# Altium footprint library PcbLib1.PcbLib: 6 footprints
Each footprint in its own frame and in the unit in brackets; x right, y up, seen from the top. Pads: shape width x height; smd on the part's side, far side on the other; paste and mask are expansions set on the pad; w line width, h text height; cw(c..) or ccw(c..) is an arc to the next point about the centre after c.
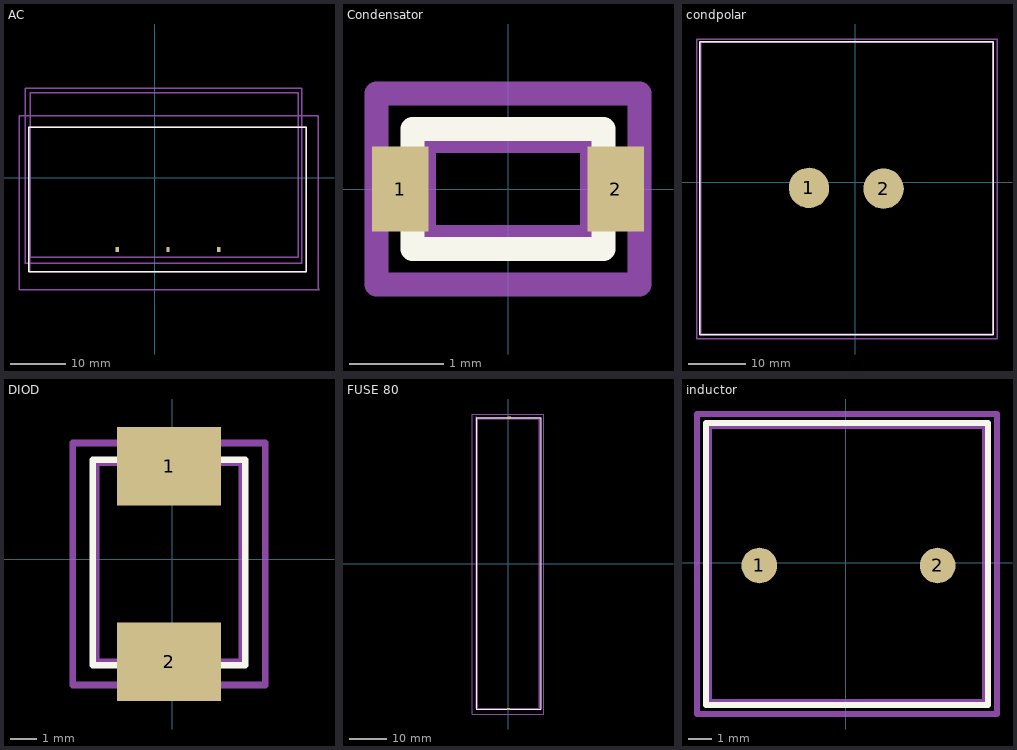
[diagram p0: the footprints below, top view; thin cyan lines are the x and y axes]

## AC [mil]
pads (3):
  rect 23.62x35.43 smd: 1(455,-505) 2(-265,-505) 3(95,-505)
Top Overlay:
  lines w10: -890,-665 1075,-665 1075,360 -890,360 -890,-665
3D Model:
  lines w10: -890,360 -885,355 -885,-665 1075,-665 1075,360 -890,360
Border:
  lines w10: -960,-790 -960,440 1160,440 1160,-785 1165,-790 -955,-790
Mechanical 13:
  lines w10: -917.32,633.86 1043.31,633.86 ; -917.32,633.86 -917.32,-606.3 -917.32,633.86 ; -917.32,633.86 1043.31,633.86 ; 1043.31,-602.36 -913.39,-602.36 1043.31,-602.36 ; 1043.31,-602.36 1043.31,633.86 ; 1043.31,-602.36 1043.31,633.86
Mechanical 15:
  lines w10: -881.89,-562.99 1019.68,-562.99 ; -881.89,-562.99 -881.89,606.3 -881.89,-562.99 ; -881.89,-562.99 1019.68,-562.99 ; 1019.68,-562.99 1019.68,602.36 ; 1019.68,-562.99 1019.68,602.36 ; 1019.68,602.36 -877.95,602.36 1019.68,602.36
3D body "User Library-Bulgin_PX0580PC.STEP": height 1234.91, standoff -1.31, extent -885.32,-660 1075.31,355.74

## Condensator [mm]
pads (2):
  rect 0.6x0.9 smd: 1(-1.143,0) 2(1.143,0)
Top Overlay:
  lines w0.254: -1.016,-0.635 1.016,-0.635 1.016,0.635 -1.016,0.635 -1.016,-0.635
3D Model:
  lines w0.254: -0.889,-0.508 0.889,-0.508 0.889,0.508 -0.889,0.508 -0.889,-0.508
Border:
  lines w0.254: -1.397,-1.016 -1.397,1.016 1.397,1.016 1.397,-1.016 -1.397,-1.016
3D body "Деталь конденсатор.stp": height 1.27, standoff 0.02, extent -0.984,-0.65 1.016,0.65

## condpolar [mil]
pads (2):
  round 275.59 smd: 1(-315,-40) 2(195,-45)
Top Overlay:
  lines w10: -1060,-1045 -1060,960 945,960 945,-1045 -1060,-1045
3D Model:
  lines w10: -1055,-1040 -1055,955 940,955 940,-1040 -1055,-1040
Border:
  lines w10: -1080,-1070 -1080,975 970,975 970,-1070 -1080,-1070
3D body "Конденсаторполяр _ 220000UF.stp": height 4015.75, standoff 0, extent -1063.94,-1046.96 943.94,956.96

## DIOD [mil]
pads (2):
  rect 157.48x118.11 smd: 1(-5,140) 2(-5,-155)
Top Overlay:
  lines w10: -120,-160 -120,150 110,150 110,-160 -120,-160
3D Model:
  lines w10: -115,-155 105,-155 105,145 -115,145 -115,-155
Border:
  lines w10: -150,-190 -150,175 140,175 140,-190 -150,-190
3D body "PCBdiod.stp": height 109.89, standoff 7.52, extent -121.23,-160 111.23,152.6

## FUSE 80 [mm]
pads (2):
  rect 0.9x0.6 smd: 1(0,-39.027) 2(0.2,39.127)
Top Overlay:
  lines w0.254: -8.636,-39.116 -8.636,39.116 8.636,39.116 8.636,-39.116 -8.636,-39.116
3D Model:
  lines w0.254: -8.509,-38.989 8.509,-38.989 8.509,38.989 -8.509,38.989 -8.509,-38.989
Border:
  lines w0.254: -9.779,-40.386 9.525,-40.386 9.525,40.132 -9.779,40.132 -9.779,-40.386
Mechanical 13:
  lines w0.254: -8.7,-38.8 -8.7,39.4 -8.5,39.2 8.7,39.2 8.7,-38.9 -8.6,-38.9
Mechanical 15:
  lines w0.254: -8.3,38.7 -8.3,-38.8 8.3,-38.8 8.3,38.7 8.2,38.8 -8.1,38.8
3D body "FUSE 80A.stp": height 19.11, standoff 0.01, extent -8.55,-39 8.55,39

## inductor [mil]
pads (2):
  round 60 smd: 1(-145,-5) 2(155,-5)
Top Overlay:
  lines w10: -235,-240 240,-240 240,235 -235,235 -235,-240
3D Model:
  lines w10: -230,-235 235,-235 235,230 -230,230 -230,-235
Border:
  lines w10: -250,-255 255,-255 255,250 -250,250 -250,-255
3D body "индуктор.stp": height 1002.76, standoff -1.18, extent -231.22,-241.1 240.74,231.1